# Altium footprint library ESP32P4C6模组封装.PcbLib: 1 footprints
Each footprint in its own frame and in the unit in brackets; x right, y up, seen from the top. Pads: shape width x height; smd on the part's side, far side on the other; paste and mask are expansions set on the pad; w line width, h text height; cw(c..) or ccw(c..) is an arc to the next point about the centre after c.
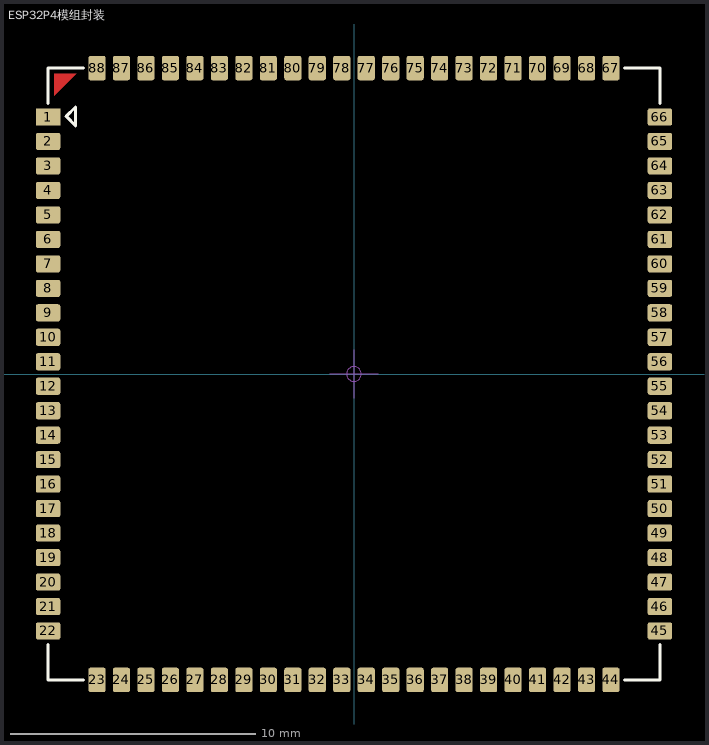
[diagram p0: the footprint, top view; thin cyan lines are the x and y axes]

## ESP32P4模组封装 [mm]
height 1.1
pads (88):
  rect 1x0.7 smd mask+0.051: 1(-12.5,10.5)
  rrect25% 1x0.7 smd mask+0.051: 2(-12.5,9.5) 3(-12.5,8.5) 4(-12.5,7.5) 5(-12.5,6.5) 6(-12.5,5.5) 7(-12.5,4.5) 8(-12.5,3.5) 9(-12.5,2.5) 10(-12.5,1.5) 11(-12.5,0.5) 12(-12.5,-0.5) 13(-12.5,-1.5) 14(-12.5,-2.5) 15(-12.5,-3.5) 16(-12.5,-4.5) 17(-12.5,-5.5) 18(-12.5,-6.5) 19(-12.5,-7.5) 20(-12.5,-8.5) 21(-12.5,-9.5) 22(-12.5,-10.5) 45(12.5,-10.5) 46(12.5,-9.5) 47(12.5,-8.5) 48(12.5,-7.5) 49(12.5,-6.5) 50(12.5,-5.5) 51(12.5,-4.5) 52(12.5,-3.5) 53(12.5,-2.5) 54(12.5,-1.5) 55(12.5,-0.5) 56(12.5,0.5) 57(12.5,1.5) 58(12.5,2.5) 59(12.5,3.5) 60(12.5,4.5) 61(12.5,5.5) 62(12.5,6.5) 63(12.5,7.5) 64(12.5,8.5) 65(12.5,9.5) 66(12.5,10.5)
  rrect25% 0.7x1 smd mask+0.051: 23(-10.5,-12.5) 24(-9.5,-12.5) 25(-8.5,-12.5) 26(-7.5,-12.5) 27(-6.5,-12.5) 28(-5.5,-12.5) 29(-4.5,-12.5) 30(-3.5,-12.5) 31(-2.5,-12.5) 32(-1.5,-12.5) 33(-0.5,-12.5) 34(0.5,-12.5) 35(1.5,-12.5) 36(2.5,-12.5) 37(3.5,-12.5) 38(4.5,-12.5) 39(5.5,-12.5) 40(6.5,-12.5) 41(7.5,-12.5) 42(8.5,-12.5) 43(9.5,-12.5) 44(10.5,-12.5) 67(10.5,12.5) 68(9.5,12.5) 69(8.5,12.5) 70(7.5,12.5) 71(6.5,12.5) 72(5.5,12.5) 73(4.5,12.5) 74(3.5,12.5) 75(2.5,12.5) 76(1.5,12.5) 77(0.5,12.5) 78(-0.5,12.5) 79(-1.5,12.5) 80(-2.5,12.5) 81(-3.5,12.5) 82(-4.5,12.5) 83(-5.5,12.5) 84(-6.5,12.5) 85(-7.5,12.5) 86(-8.5,12.5) 87(-9.5,12.5) 88(-10.5,12.5)
Top Layer:
  region: -12.246,11.376 -11.357,12.265 -12.246,12.265
Top Overlay:
  lines w0.127: -12.5,-11.049 -12.5,-12.5 -11.049,-12.5 ; -12.5,11.049 -12.5,12.5 -11.049,12.5 ; 11.049,-12.5 12.5,-12.5 12.5,-11.049 ; 11.049,12.5 12.5,12.5 12.5,11.049 ; -11.759,10.525 -11.378,10.906 -11.378,10.144 -11.759,10.525
Top Solder:
  region: -12.246,11.376 -11.357,12.265 -12.246,12.265
Mechanical 15:
  circle w0.05: c0,0 r0.3
  lines w0.05: -1,0 1,0 ; 0,-1 0,1
3D body "ESP32P4模组无RC.step": height 3.23, standoff -0.02, extent -12.5,-12.5 12.5,12.5